# EAGLE library part HEADER_1X40 (library 1)
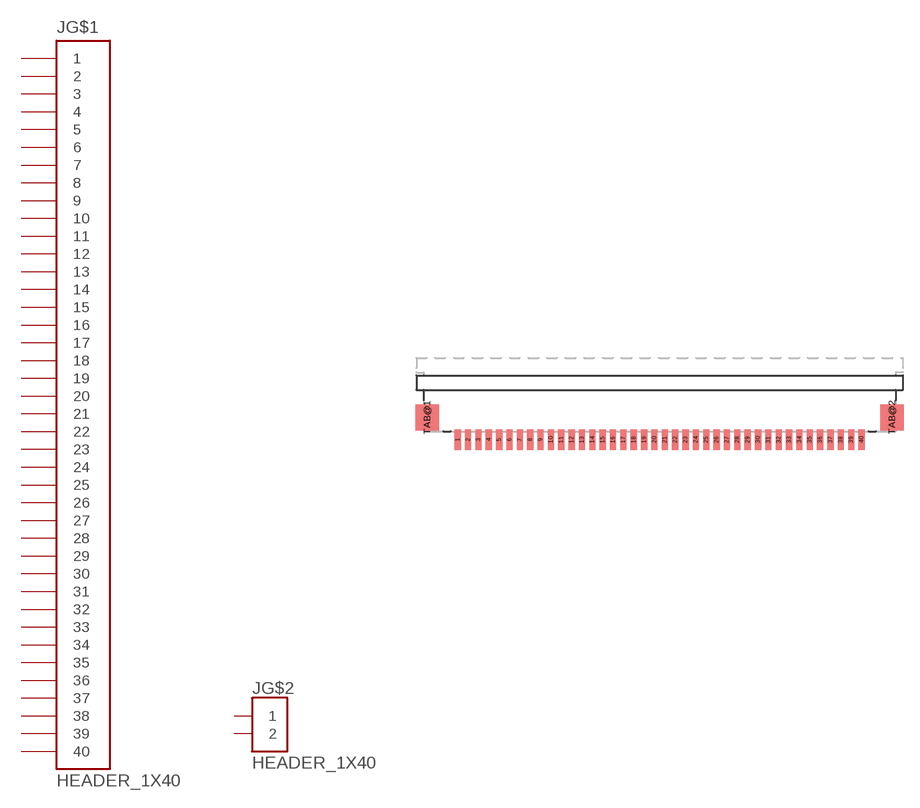
[diagram p31: symbol with the pads of ER-CON04HB-2; footprint ER-CON04HB-2]

Designator prefix J; gates G$1=HEADER_1X40 G$2=HEADER_1X2

## HEADER_1X40  [ER-CON04HB-2]
1  G$1:1
2  G$1:2
3  G$1:3
4  G$1:4
5  G$1:5
6  G$1:6
7  G$1:7
8  G$1:8
9  G$1:9
10  G$1:10
11  G$1:11
12  G$1:12
13  G$1:13
14  G$1:14
15  G$1:15
16  G$1:16
17  G$1:17
18  G$1:18
19  G$1:19
20  G$1:20
21  G$1:21
22  G$1:22
23  G$1:23
24  G$1:24
25  G$1:25
26  G$1:26
27  G$1:27
28  G$1:28
29  G$1:29
30  G$1:30
31  G$1:31
32  G$1:32
33  G$1:33
34  G$1:34
35  G$1:35
36  G$1:36
37  G$1:37
38  G$1:38
39  G$1:39
40  G$1:40
TAB@1  G$2:1
TAB@2  G$2:2

## Footprint ER-CON04HB-2 (pad centres in mm)
"er-con04hb-2" 40-pin zif included with buy-display.com ER-TFT070-4
smd 0.6 x 2: 1 -19.5,0; 2 -18.5,0; 3 -17.5,0; 4 -16.5,0; 5 -15.5,0; 6 -14.5,0; 7 -13.5,0; 8 -12.5,0; 9 -11.5,0; 10 -10.5,0; 11 -9.5,0; 12 -8.5,0; 13 -7.5,0; 14 -6.5,0; 15 -5.5,0; 16 -4.5,0; 17 -3.5,0; 18 -2.5,0; 19 -1.5,0; 20 -0.5,0; 21 0.5,0; 22 1.5,0; 23 2.5,0; 24 3.5,0; 25 4.5,0; 26 5.5,0; 27 6.5,0; 28 7.5,0; 29 8.5,0; 30 9.5,0; 31 10.5,0; 32 11.5,0; 33 12.5,0; 34 13.5,0; 35 14.5,0; 36 15.5,0; 37 16.5,0; 38 17.5,0; 39 18.5,0; 40 19.5,0
smd 2.3 x 2.5: TAB@1 -22.45,2.15; TAB@2 22.45,2.15